# EAGLE library part A062-800M1 (library saw-filters-narrowband)
A062-800M1 Параметр Ед. изм. Мин. значение Тип. значение Макс. значение Центральная частота МГц 799 800 802 Минимальное вносимое затухание дБ 1.7 2.5 3 Полоса среза по уровню -1 дБ МГц 10 11 - Полоса среза по уровню -30 дБ МГц - 30 - Неравномерность АЧХ дБ - 0.5 1 Групповое время задержки нс - - - Гарантированное затухание дБ - 35 - Температурный диапазон °C -55 22 +85 Материал подложки - - Танталат лития 42 -
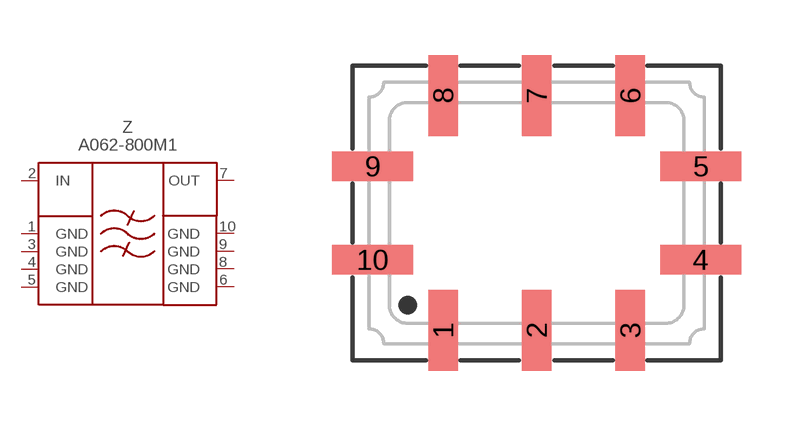
[diagram p139: symbol with the pads of QCC10-1; footprint QCC10-1]

Designator prefix Z

## A062-800M1  [QCC10-1]
1  GND  pwr
2  IN  in
3  GND  pwr
4  GND  pwr
5  GND  pwr
6  GND  pwr
7  OUT  out
8  GND  pwr
9  GND  pwr
10  GND  pwr

## Footprint QCC10-1 (pad centres in mm)
smd 0.8 x 2.2: 1 -2.54,-3.185; 2 0,-3.185; 3 2.54,-3.185; 6 2.54,3.185; 7 0,3.185; 8 -2.54,3.185
smd 2.2 x 0.8: 4 4.455,-1.27; 5 4.455,1.27; 9 -4.455,1.27; 10 -4.455,-1.27